# EAGLE library part CD74HC4051E (library joe)
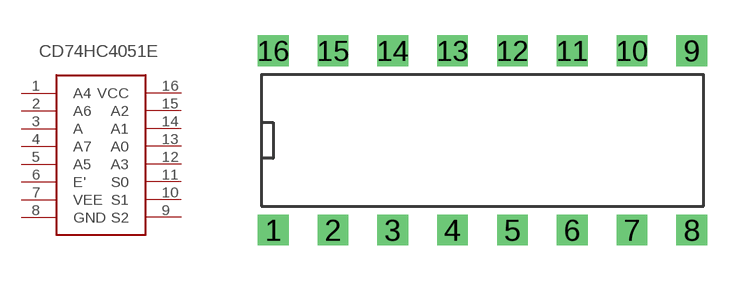
[diagram p0: symbol with the pads of CD74HC4051E; footprint CD74HC4051E]

Designator prefix -

## CD74HC4051E  [CD74HC4051E]
1  A4
2  A6
3  A
4  A7
5  A5
6  E'
7  VEE
8  GND
9  S2
10  S1
11  S0
12  A3
13  A0
14  A1
15  A2
16  VCC

## Footprint CD74HC4051E (pad centres in mm)
drill 0.8 square: 1 -10.16,-7.62; 2 -7.62,-7.62; 3 -5.08,-7.62; 4 -2.54,-7.62; 5 0,-7.62; 6 2.54,-7.62; 7 5.08,-7.62; 8 7.62,-7.62; 9 7.62,0; 10 5.08,0; 11 2.54,0; 12 0,0; 13 -2.54,0; 14 -5.08,0; 15 -7.62,0; 16 -10.16,0